# Altium schematic symbol library SCH - CONNECTORS - 2 PIN.SCHLIB: 1 symbol
Pins are listed as number, name and electrical type; pins without a type are passive.

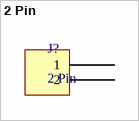
[diagram p0: symbol 2 Pin]

## 2 Pin
designator J?
footprint JST BM02B-GHS-TBT (JST GH Series 1.25mm pitch, 4 pin top entry connector)
footprint JST BM02B-PASS-TF (JST PA Series 2mm pitch, top entry connector)
pins: 1, 2